# EAGLE library part TDA7494S (library Audio-Power-amlifier V.2.0)
The TDA7494S 10W is class AB power amplifier assembled in the @Multiwatt 15 package, specially designed for high quality sound, TV applications. Features of the TDA7494S include Stand-by and mute functions.
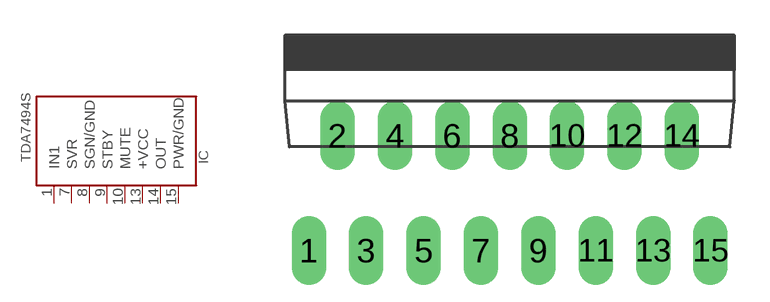
[diagram p211: symbol with the pads of MULTIWATT-15V; footprint MULTIWATT-15V]

Designator prefix IC

## TDA7494S  [MULTIWATT-15V]
1  IN1  in
7  SVR  in
8  SGN/GND  pwr
9  STBY  in
10  MUTE  in
13  +VCC  pwr
14  OUT  out
15  PWR/GND  pwr

## Footprint MULTIWATT-15V (pad centres in mm)
Multiwatt 15 vertical
drill 1.016 long: 1 -8.89,-5.08; 2 -7.62,0; 3 -6.35,-5.08; 4 -5.08,0; 5 -3.81,-5.08; 6 -2.54,0; 7 -1.27,-5.08; 8 0,0; 9 1.27,-5.08; 10 2.54,0; 11 3.81,-5.08; 12 5.08,0; 13 6.35,-5.08; 14 7.62,0; 15 8.89,-5.08